# Altium schematic symbol library ADS1248IPWR.SchLib: 1 symbol
Pins are listed as number, name and electrical type; pins without a type are passive.

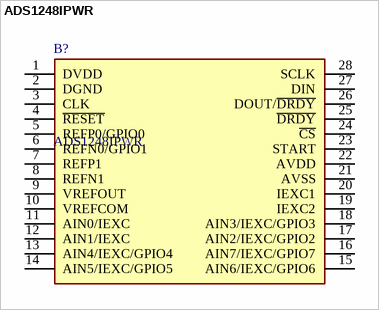
[diagram p0: symbol ADS1248IPWR]

## ADS1248IPWR
designator B?
24-Bit, 2kSPS, 8-Ch Delta-Sigma ADC for Precision Sensor Measurement; Manufacturer_Name: Texas Instruments; Geometry.Height: 1.2mm; Manufacturer_Part_Number: ADS1248IPWR; Mouser Part Number: 595-ADS1248IPWR; Mouser Price/Stock: https://www.mouser.co.uk/ProductDetail/Texas-Instruments/ADS1248IPWR?qs=J7dbQ%252BTwiyv7%2FPk4aINAHQ%3D%3D; Arrow Part Number: ADS1248IPWR; Arrow Price/Stock: https://www.arrow.com/en/products/ads1248ipwr/texas-instruments?region=nac; Datasheet Link: http://www.ti.com/lit/gpn/ADS1248
footprint SOP65P640X120-28N
pins: 1 DVDD, 2 DGND, 3 CLK, 4 ~{RESET}, 5 REFP0/GPIO0, 6 REFN0/GPIO1, 7 REFP1, 8 REFN1, 9 VREFOUT, 10 VREFCOM, 11 AIN0/IEXC, 12 AIN1/IEXC, 13 AIN4/IEXC/GPIO4, 14 AIN5/IEXC/GPIO5, 15 AIN6/IEXC/GPIO6, 16 AIN7/IEXC/GPIO7, 17 AIN2/IEXC/GPIO2, 18 AIN3/IEXC/GPIO3, 19 IEXC2, 20 IEXC1, 21 AVSS, 22 AVDD, 23 START, 24 ~{CS}, 25 ~{DRDY}, 26 DOUT/~{DRDY}, 27 DIN, 28 SCLK